# Altium schematic symbol library MEC-STD-CENTER.SchLib: 1 symbol
Pins are listed as number, name and electrical type; pins without a type are passive.

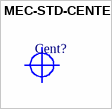
[diagram p0: symbol MEC-STD-CENTER]

## MEC-STD-CENTER
designator Cent?  (value not drawn)  (no BOM)